# EAGLE library part 750315248 (library WE-IBTI)
WE-IBTI Isolated Buck Transformers Characteristics Flybuck™ topology Operating Temp: -40°C to +125°C Excellent leakage inductance and interwinding capacitance performance Applications Industrial Programmable Logic Controllers (PLCs) Building automation and process control Isolated interface power: RS-422, RS-485, CAN, I2C, LAN Motor drive control, inverters and industrial automation Isolated low power drivers & regulators, smart e-meters Bias power supplies for gate drives and op-amps <https://www.we-online.com/components/media/o790826v209%20family-MID-IBTI.1673.jpg> Details see: www.we-online.com/en/components/products/WE-IBTI <www.we-online.com/catalog/WE-IBTI/?utm_source=eagle_model&utm_medium=description_link&utm_campaign=eisos_eagle> Created by Ella Wu 2024-06-07 2024 (C) Wurth Elektronik
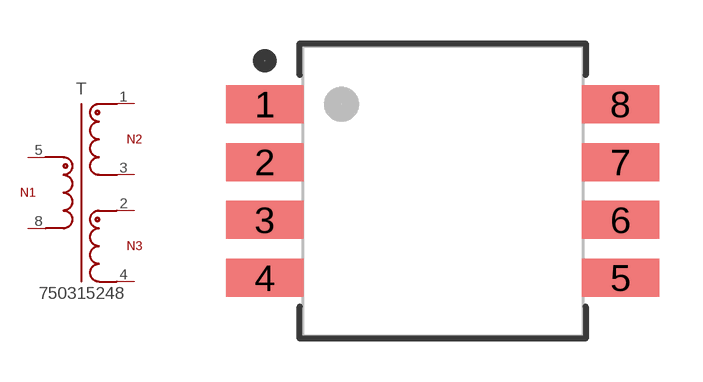
[diagram p12: symbol with the pads of WE-IBTI_ER9.5S_L10W14H5; footprint WE-IBTI_ER9.5S_L10W14H5]

Designator prefix T

## 750315248 (DATASHEET-URL: https://www.we-online.com/redexpert/spec/750315248?ae; FSWITCH: 350kHz; HEIGHT: 5mm; IOUT1: 100mA; IOUT2: 100mA; ISAT: 0.96A; L: 30uH; LENGTH: 10mm; LS: 750nH; MOUNT: SMT; N: 1:1:1; PART-NUMBER: 750315248; SIZE: ER9.5S; VALUE: 750315248; VBUCK: 5.5V; VIN: 20 - 30 V (DC); VOUT1: -5V; VOUT2: 5V; VT: 1500V(AC); WIDTH: 14mm)  [WE-IBTI_ER9.5S_L10W14H5]
1  1  pas
2  2  pas
3  3  pas
4  4  pas
5  5  pas
8  8  pas

## Footprint WE-IBTI_ER9.5S_L10W14H5 (pad centres in mm)
WE-IBTI Isolated Buck Transformers Size: ER9.5S,SMT,8pins LXWXH=10X14X5mm
smd 2.67 x 1.31: 1 -6.15,3; 2 -6.15,1; 3 -6.15,-1; 4 -6.15,-3; 5 6.15,-3; 6 6.15,-1; 7 6.15,1; 8 6.15,3